# Altium schematic symbol library misc.SchLib: 3 symbols
Pins are listed as number, name and electrical type; pins without a type are passive.

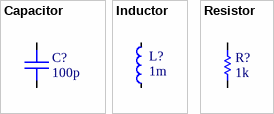
[diagram p0: symbols Capacitor to Resistor]

## Capacitor
designator C?, comment 100p
Capacitor; Value: 100p; Rated Voltage: *
footprint C0603 (Chip Capacitor, 2-Leads, Body 1,55x0,85mm, IPC Medium Density)
footprint C0805 (Chip Capacitor, 2-Leads, Body 2,00x1,25mm, IPC Medium Density)
footprint C0402 (Chip Capacitor, 2-Leads, Body 1,00x0,50mm, IPC Medium Density)
pins: 1, 2

## Inductor
designator L?, comment 1m
Inductor; Value: 1m
footprint L0402 (Chip Inductor, 2-Leads, Body 1,00x0,50mm, IPC Medium Density)
footprint L0603 (Chip Inductor, 2-Leads, Body 1,60x0,80mm, IPC Medium Density)
footprint L0805 (Chip Inductor, 2-Leads, Body 2,00x1,25mm, IPC Medium Density)
pins: 1, 2

## Resistor
designator R?, comment 1k
Resistor; Value: 1k; Power: *
footprint R0603 (Chip Resistor, 2-Leads, Body 1,60x0,80mm, IPC Medium Density)
footprint R0805 (Chip Resistor, 2-Leads, Body 2,00x1,25mm, IPC Medium Density)
footprint R0402 (Chip Resistor, 2-Leads, Body 1,00x0,50mm, IPC Medium Density)
pins: 1, 2